# EAGLE library part S6B-PH-SM6-TB (library all-connectors)
S6B-PH-SM6-TB JST 2.00mm pitch / Disconnectable Crimp Style Connector
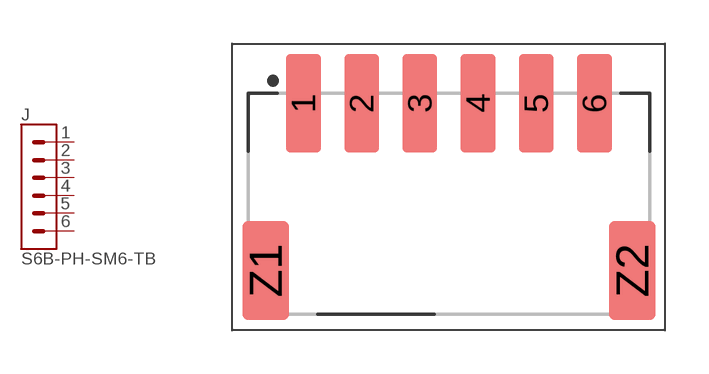
[diagram p34: symbol with the pads of PH-6_RA_2.00MM; footprint PH-6_RA_2.00MM]

Designator prefix J

## S6B-PH-SM6-TB  [PH-6_RA_2.00MM]
1  1  pas
2  2  pas
3  3  pas
4  4  pas
5  5  pas
6  6  pas

## Footprint PH-6_RA_2.00MM (pad centres in mm)
https://www.jst.com/wp-content/uploads/2021/08/ePH-new.pdf
smd 1.2 x 3.4: 1 -5,3.45; 2 -3,3.45; 3 -1,3.45; 4 1,3.45; 5 3,3.45; 6 5,3.45
smd 1.6 x 3.4: Z1 -6.3,-2.3; Z2 6.3,-2.3